# EAGLE library part CONN_RJ45_MAG_X2_LEDS (library GPLIB_CONN)
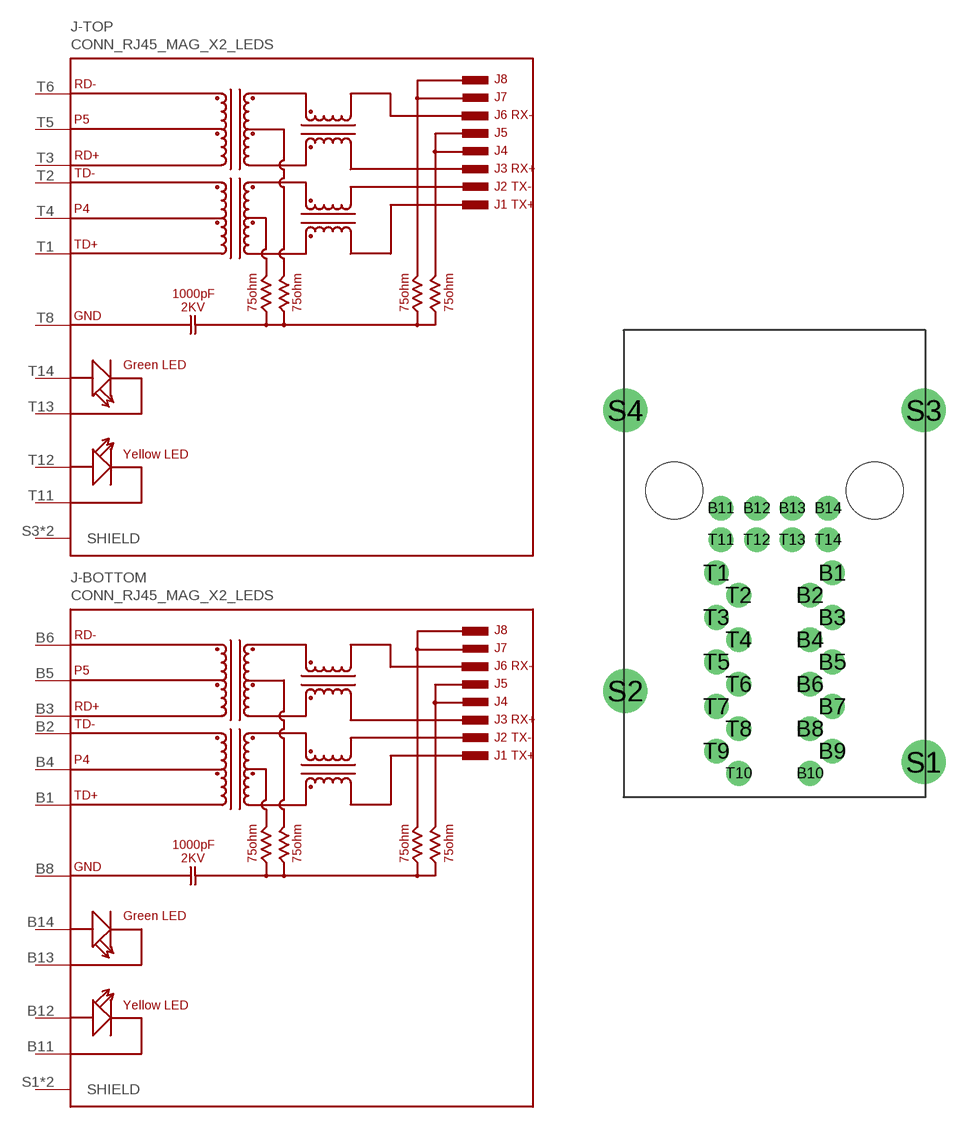
[diagram p9: symbol with the pads of CONN_RJ45_X2_MAG_HR916100H; footprint CONN_RJ45_X2_MAG_HR916100H]

Designator prefix J; gates -TOP=CONN_ETH_MAG_LEDS -BOTTOM=CONN_ETH_MAG_LEDS

## CONN_RJ45_MAG_X2_LEDS_HR916100H  [CONN_RJ45_X2_MAG_HR916100H]
B1  -BOTTOM:TD+  pas
B2  -BOTTOM:TD-  pas
B3  -BOTTOM:RD+  pas
B4  -BOTTOM:P4  pas
B5  -BOTTOM:P5  pas
B6  -BOTTOM:RD-  pas
B8  -BOTTOM:GND  pwr
B11  -BOTTOM:YC  pas
B12  -BOTTOM:YA  pas
B13  -BOTTOM:GC  pas
B14  -BOTTOM:GA  pas
S1  -BOTTOM:SHIELD  pas
S2  -BOTTOM:SHIELD  pas
S3  -TOP:SHIELD  pas
S4  -TOP:SHIELD  pas
T1  -TOP:TD+  pas
T2  -TOP:TD-  pas
T3  -TOP:RD+  pas
T4  -TOP:P4  pas
T5  -TOP:P5  pas
T6  -TOP:RD-  pas
T8  -TOP:GND  pwr
T11  -TOP:YC  pas
T12  -TOP:YA  pas
T13  -TOP:GC  pas
T14  -TOP:GA  pas

## Footprint CONN_RJ45_X2_MAG_HR916100H (pad centres in mm)
drill 0.9 pad 1.4: B1 3.3,1.08; B2 2.03,-0.19; B3 3.3,-1.46; B4 2.03,-2.73; B5 3.3,-4; B6 2.03,-5.27; B7 3.3,-6.54; B8 2.03,-7.81; B9 3.3,-9.08; B10 2.03,-10.35; B11 -3.045,4.77; B12 -1.015,4.77; B13 1.015,4.77; B14 3.045,4.77; T1 -3.3,1.08; T2 -2.03,-0.19; T3 -3.3,-1.46; T4 -2.03,-2.73; T5 -3.3,-4; T6 -2.03,-5.27; T7 -3.3,-6.54; T8 -2.03,-7.81; T9 -3.3,-9.08; T10 -2.03,-10.35; T11 -3.045,2.97; T12 -1.015,2.97; T13 1.015,2.97; T14 3.045,2.97
drill 1.6 pad 2.5: S1 8.505,-9.71; S2 -8.505,-5.65; S3 8.505,10.35; S4 -8.505,10.35
hole 3.25 at -5.715,5.78
hole 3.25 at 5.715,5.78